# Altium footprint library PinPuller_PCBLib.PcbLib: 7 footprints
Each footprint in its own frame and in the unit in brackets; x right, y up, seen from the top. Pads: shape width x height; smd on the part's side, far side on the other; paste and mask are expansions set on the pad; w line width, h text height; cw(c..) or ccw(c..) is an arc to the next point about the centre after c.
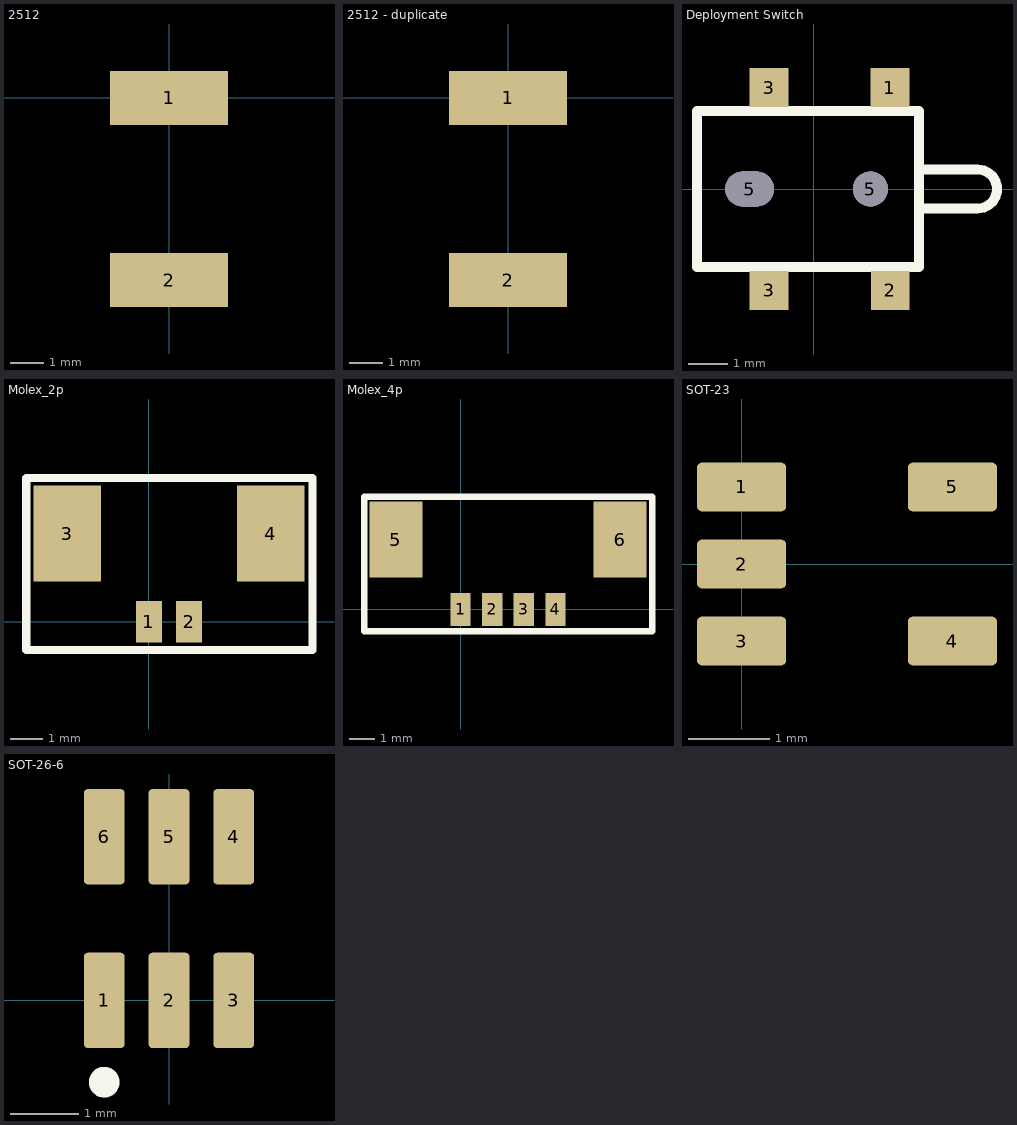
[diagram p0: the footprints below, top view; thin cyan lines are the x and y axes]

## 2512 [mm]
pads (2):
  rect 3.5x1.6 smd: 1(0,0) 2(0,-5.4)

## 2512 - duplicate [mm]
pads (2):
  rect 3.5x1.6 smd: 1(0,0) 2(0,-5.4)

## Deployment Switch [mm] "Deployment Switch C&K SDS005R"
pads (6):
  rect 1x1 smd: 1(1.95,2.6) 2(1.96,-2.6) 3(-1.15,-2.6) 3(-1.15,2.6)
  rrect100% 1.25x0.9 hole 0.9 slot 1.25 at 0 deg unplated: 5(-1.65,0)
  round 0.9 hole 0.9 unplated: 5(1.45,0)
Top Overlay:
  lines w0.254: 2.7,-0.5 4.2,-0.5 ccw(c4.2,0) 4.2,0.5 2.7,0.5 ; -3,-2 2.7,-2 2.7,2 -3,2 -3,-2
Mechanical 1:
  text "Both back connectors connect to shield." at -3.675,3.25 h0.1
3D body "SDS005R.stp": height 2, standoff -0.6, extent -3,-2.5 5.2,2.5

## Molex_2p [mm] "Molex_2p 0533980271"
pads (4):
  rect 0.8x1.3 smd: 1(0,0) 2(1.25,0)
  rect 2.1x3 smd: 3(-2.55,2.75) 4(3.8,2.75)
Top Overlay:
  lines w0.254: -3.825,-0.875 -3.825,4.475 5.1,4.475 5.1,-0.875 -3.825,-0.875
3D body "533980271.stp": height 4.7, standoff -0.05, extent -3.225,-0.2 4.425,4

## Molex_4p [mm] "Molex_4p 0533980471"
pads (6):
  rect 0.8x1.3 smd: 1(0,0) 2(1.25,0) 3(2.5,0) 4(3.75,0)
  rect 2.1x3 smd: 5(-2.55,2.75) 6(6.3,2.75)
Top Overlay:
  lines w0.254: -3.81,-0.864 7.575,-0.864 7.575,4.445 -3.81,4.445 -3.81,-0.864
3D body "533980471.stp": height 4.7, standoff -0.05, extent -3.2,-0.35 6.95,3.85

## SOT-23 [mm]
pads (5):
  rrect20% 1.1x0.6 smd: 1(0,0.95) 2(0,0) 3(0,-0.95) 4(2.6,-0.95) 5(2.6,0.95)

## SOT-26-6 [mm]
pads (6):
  rrect20% 0.6x1.4 smd: 1(-0.95,0) 2(0,0) 3(0.95,0) 4(0.95,2.4) 5(0,2.4) 6(-0.95,2.4)
Top Overlay:
  circle w0.25: c-0.95,-1.2 r0.1
3D body "SOT-23-6.step": height 1.55, standoff 0, extent -1.425,-0.175 1.475,2.625